# Altium footprint library 750817020.PcbLib: 1 footprints
Each footprint in its own frame and in the unit in brackets; x right, y up, seen from the top. Pads: shape width x height; smd on the part's side, far side on the other; paste and mask are expansions set on the pad; w line width, h text height; cw(c..) or ccw(c..) is an arc to the next point about the centre after c.
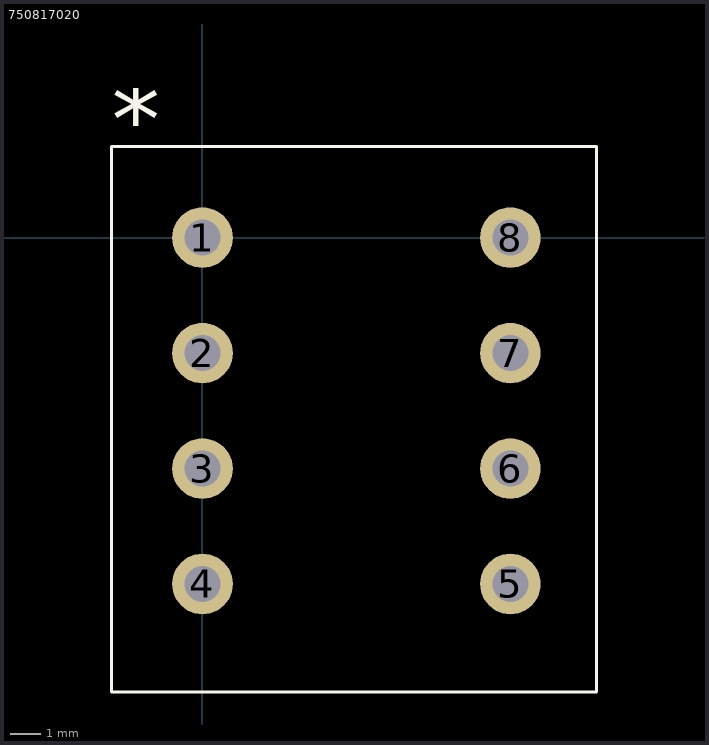
[diagram p0: the footprint, top view; thin cyan lines are the x and y axes]

## 750817020 [mm]
pads (8):
  round 2 hole 1.19: 1(0,0) 2(0,-3.81) 3(0,-7.62) 4(0,-11.43) 5(10.16,-11.43) 6(10.16,-7.62) 7(10.16,-3.81) 8(10.16,0)
Top Overlay:
  lines w0.1: -3,-15 13,-15 13,3 -3,3 -3,-15
  text "*" at -3,2 h4
3D body: height 18.5, standoff 0, extent -2.875,-13.095 12.875,2.095